# Altium schematic symbol library UMK105B7104KV-FR.SchLib: 1 symbol
Pins are listed as number, name and electrical type; pins without a type are passive.

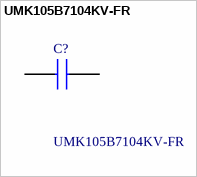
[diagram p0: symbol UMK105B7104KV-FR]

## UMK105B7104KV-FR
designator C?
Capacitor MLCC 0402 X7R 50V 100nF; Manufacturer_Name: TAIYO YUDEN; Geometry.Height: 0.55mm; Mouser Part Number: 963-UMK105B7104KV-FR; Mouser Price/Stock: https://www.mouser.co.uk/ProductDetail/Taiyo-Yuden/UMK105B7104KV-FR?qs=CNQs48zzdnpletoWYyNGGg%3D%3D; Manufacturer_Part_Number: UMK105B7104KV-FR; Datasheet Link: http://www.yuden.co.jp/productdata/catalog/mlcc06_e.pdf
footprint CAPC1005X55N
pins: 1, 2